# Altium schematic symbol library IRFB3306.SchLib: 1 symbol
Pins are listed as number, name and electrical type; pins without a type are passive.

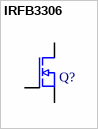
[diagram p0: symbol IRFB3306]

## IRFB3306
designator Q?, comment NVMTS0D4N04CL  (value not drawn)
Part Number: Q_N_NVMTS0D4N04CL; Manufacturer Part Number: NVMTS0D4N04CLTXG; On Resistance Rds(on): 400 uOhms; Power Dissipation Pd: 244 W; Continuous Drain Current Id: 553.8 A; Drain Source Voltage Uds: 40 V; Transistor Case Style: PQFN-88-8; ComponentLinkDescription: Datasheet; FR_SN: T_M-07; Value: NVMTS0D4N04CL; ComponentLinkURL: https://hr.mouser.com/datasheet/2/308/NVMTS0D4N04CL-D-1664420.pdf; Supplier Part Number: 863-NVMTS0D4N04CLTXG
footprint TO254P450X1020X450-3N (Flange Mount (TO-220) Vertical, 2.54 mm pitch; 3 pin, 10.20 mm W X 4.50 mm H Body)
pins: 1 G, 2 D, 3 S